# Altium footprint library AvionicsPcbLib1.PcbLib: 31 footprints (part 2 of 2)
Each footprint in its own frame and in the unit in brackets; x right, y up, seen from the top. Pads: shape width x height; smd on the part's side, far side on the other; paste and mask are expansions set on the pad; w line width, h text height; cw(c..) or ccw(c..) is an arc to the next point about the centre after c.
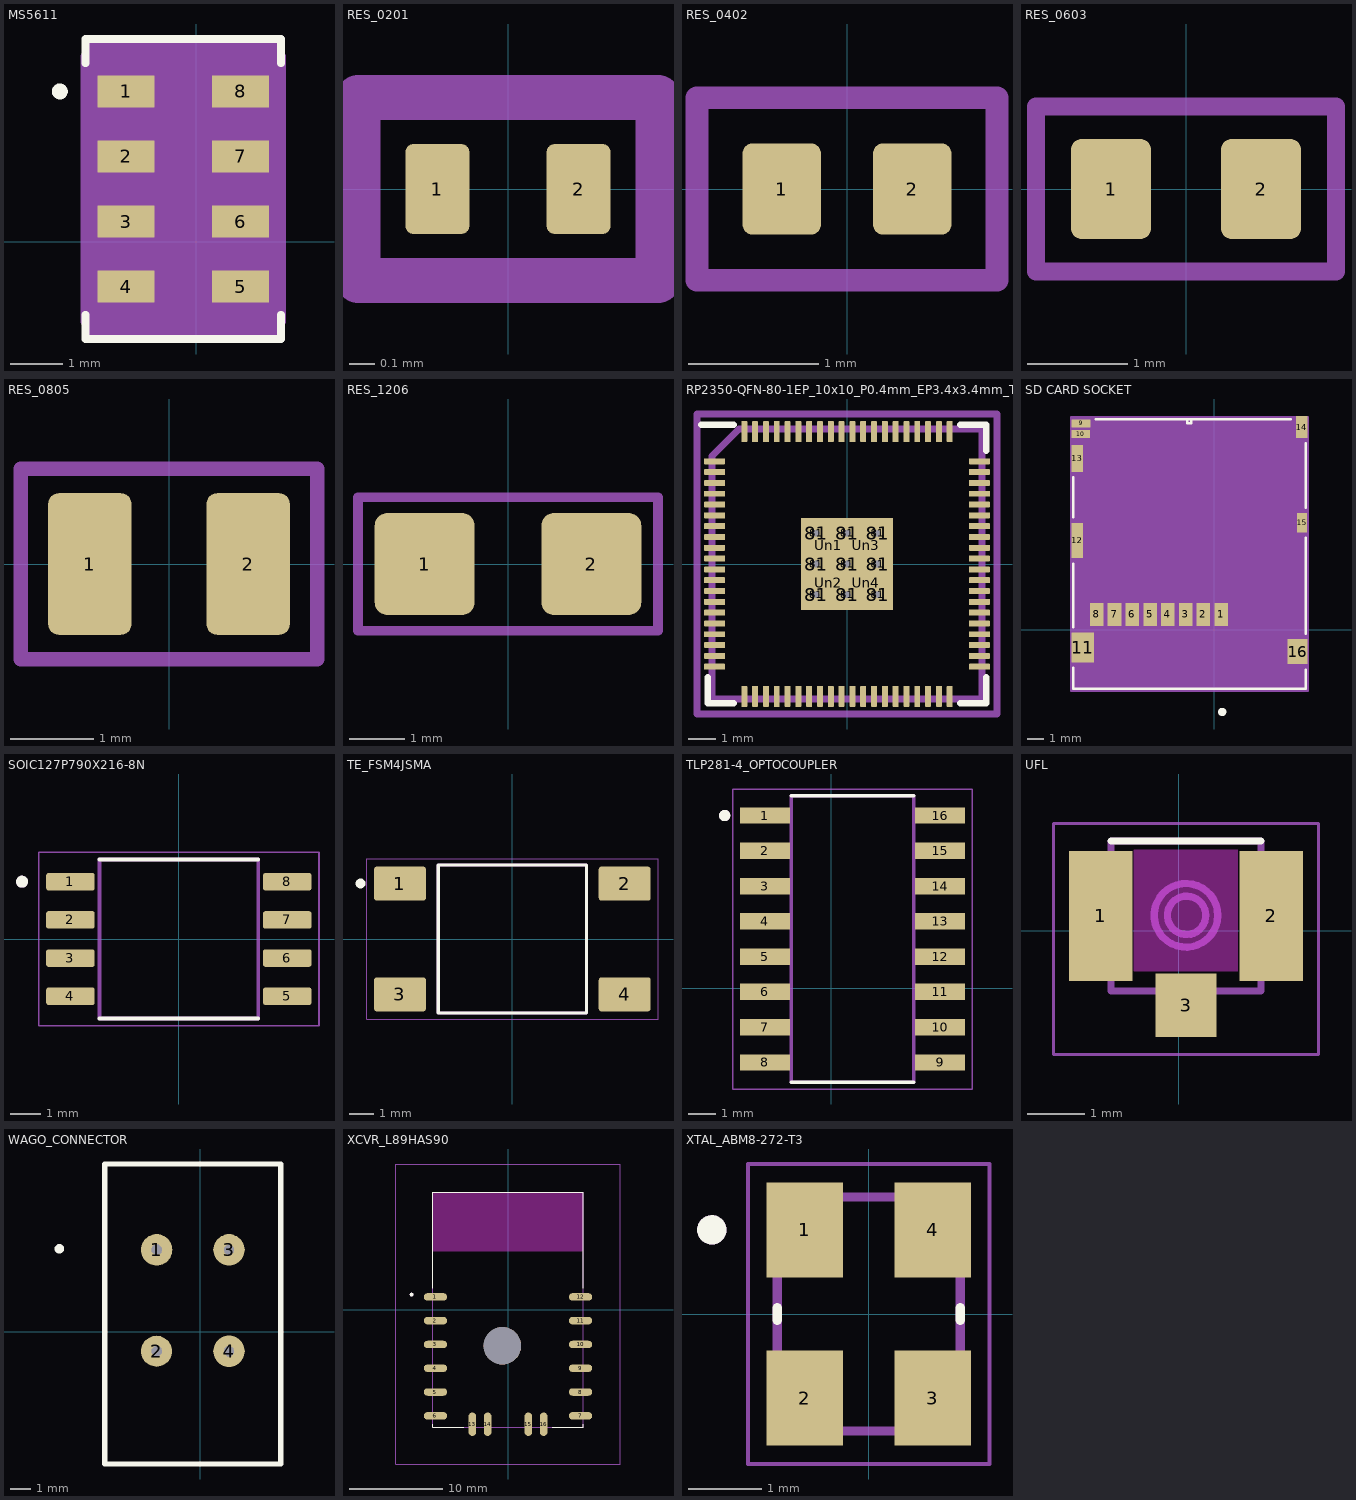
[diagram p1: the footprints below, top view; thin cyan lines are the x and y axes]

## MS5611 [mil]
pads (8):
  rect 43x24 smd paste-12 mask+0: 1(-53.31,113.82) 2(-53.31,64.61) 3(-53.31,15.39) 4(-53.31,-33.82) 5(33.31,-33.82) 6(33.31,15.39) 7(33.31,64.61) 8(33.31,113.82)
Top Overlay:
  circle w6: c-103.41,113.82 r3
  lines w6: -84,-55.15 -84,-73.5 64,-73.5 64,-55.15 ; -84,135.15 -84,153.5 64,153.5 64,135.15
  text ".Designator" at -85,180 h20
Top Paste:
  region: 54.81,125.82 11.81,125.82 11.81,101.82 54.81,101.82
  region: 54.81,76.61 11.81,76.61 11.81,52.61 54.81,52.61
  region: 54.81,27.39 11.81,27.39 11.81,3.39 54.81,3.39
  region: 54.81,-21.82 11.81,-21.82 11.81,-45.82 54.81,-45.82
  region: -31.81,-21.82 -74.81,-21.82 -74.81,-45.82 -31.81,-45.82
  region: -31.81,27.39 -74.81,27.39 -74.81,3.39 -31.81,3.39
  region: -31.81,76.61 -74.81,76.61 -74.81,52.61 -31.81,52.61
  region: -31.81,125.82 -74.81,125.82 -74.81,101.82 -31.81,101.82
Top Solder:
  region: 54.81,125.82 11.81,125.82 11.81,101.82 54.81,101.82
  region: 54.81,76.61 11.81,76.61 11.81,52.61 54.81,52.61
  region: 54.81,27.39 11.81,27.39 11.81,3.39 54.81,3.39
  region: 54.81,-21.82 11.81,-21.82 11.81,-45.82 54.81,-45.82
  region: -31.81,-21.82 -74.81,-21.82 -74.81,-45.82 -31.81,-45.82
  region: -31.81,27.39 -74.81,27.39 -74.81,3.39 -31.81,3.39
  region: -31.81,76.61 -74.81,76.61 -74.81,52.61 -31.81,52.61
  region: -31.81,125.82 -74.81,125.82 -74.81,101.82 -31.81,101.82
Mechanical 13:
  circle w1: c-20,113.82 r3
  lines w1: -22,138.5 ccw(c-10,138.5) 2,138.5 ; -69,-58.5 -69,138.5 49,138.5 49,-58.5 -69,-58.5
  text ".Designator" at -85,180 h20
Mechanical 15:
  region: -79,-60.43 -84.81,-60.43 -84.81,140.43 -79,140.43 -79,148.5 59,148.5 59,140.43 64.81,140.43 64.81,-60.43 59,-60.43 59,-68.5 -79,-68.5
  lines w6: -84.81,-60.43 -79,-60.43 -79,-68.5 59,-68.5 59,-60.43 64.81,-60.43 64.81,140.43 59,140.43 59,148.5 -79,148.5 -79,140.43 -84.81,140.43 -84.81,-60.43

## RES_0201 [mm]
pads (2):
  rrect25% 0.25x0.35 smd mask+0.05: 1(-0.275,0) 2(0.275,0)
Mechanical 13:
  lines w0.175: -0.584,-0.356 0.584,-0.356 0.584,0.356 -0.584,0.356 -0.584,-0.356
  text "'.Designator'" at -5.665,-0.417 h1
3D body "R0201.step": height 0.15, standoff 0, extent -0.3,-0.15 0.3,0.15

## RES_0402 [mm]
pads (2):
  rrect25% 0.6x0.7 smd: 1(-0.5,0) 2(0.5,0)
Mechanical 13:
  lines w0.175: -1.15,-0.7 -1.15,0.7 1.15,0.7 1.15,-0.7 -1.15,-0.7
  text "'.Designator'" at -5.665,-0.417 h1
3D body "R0402.step": height 0.3, standoff 0, extent -0.5,-0.25 0.5,0.25

## RES_0603 [mm]
pads (2):
  rrect25% 0.8x1 smd: 1(-0.75,0) 2(0.75,0)
Mechanical 13:
  lines w0.175: -1.5,-0.825 -1.5,0.825 1.5,0.825 1.5,-0.825 -1.5,-0.825
  text "'.Designator'" at -5.665,-0.417 h1
3D body "R0603.step": height 0.52, standoff 0.01, extent -0.8,-0.43 0.8,0.43

## RES_0805 [mm]
pads (2):
  rrect25% 1x1.7 smd: 1(-0.95,0) 2(0.95,0)
Mechanical 13:
  lines w0.175: -1.778,-1.143 -1.778,1.143 1.778,1.143 1.778,-1.143 -1.778,-1.143
  text "'.Designator'" at -5.665,-0.417 h1
3D body "R0805.step": height 0.47, standoff 0.01, extent -1,-0.63 1,0.63

## RES_1206 [mm]
pads (2):
  rrect25% 1.8x1.84 smd: 1(-1.5,0) 2(1.5,0)
Mechanical 13:
  lines w0.175: -2.7,-1.2 -2.7,1.2 2.7,1.2 2.7,-1.2 -2.7,-1.2
  text "'.Designator'" at -5.665,-0.417 h1
3D body "R1206.step": height 0.57, standoff 0.01, extent -1.6,-0.83 1.6,0.83

## RP2350-QFN-80-1EP_10x10_P0.4mm_EP3.4x3.4mm_ThermalVias [mm]
pads (102):
  rrect25% 0.78x0.22 smd: 1(-4.897,3.8) 2(-4.897,3.4) 3(-4.897,3) 4(-4.897,2.6) 5(-4.897,2.2) 6(-4.897,1.8) 7(-4.897,1.4) 8(-4.897,1) 9(-4.897,0.6) 10(-4.897,0.2) 11(-4.897,-0.2) 12(-4.897,-0.6) 13(-4.897,-1) 14(-4.897,-1.4) 15(-4.897,-1.8) 16(-4.897,-2.2) 17(-4.897,-2.6) 18(-4.897,-3) 19(-4.897,-3.4) 20(-4.897,-3.8) 41(4.897,-3.8) 42(4.897,-3.4) 43(4.897,-3) 44(4.897,-2.6) 45(4.897,-2.2) 46(4.897,-1.8) 47(4.897,-1.4) 48(4.897,-1) 49(4.897,-0.6) 50(4.897,-0.2) 51(4.897,0.2) 52(4.897,0.6) 53(4.897,1) 54(4.897,1.4) 55(4.897,1.8) 56(4.897,2.2) 57(4.897,2.6) 58(4.897,3) 59(4.897,3.4) 60(4.897,3.8)
  rrect25% 0.22x0.78 smd: 21(-3.8,-4.897) 22(-3.4,-4.897) 23(-3,-4.897) 24(-2.6,-4.897) 25(-2.2,-4.897) 26(-1.8,-4.897) 27(-1.4,-4.897) 28(-1,-4.897) 29(-0.6,-4.897) 30(-0.2,-4.897) 31(0.2,-4.897) 32(0.6,-4.897) 33(1,-4.897) 34(1.4,-4.897) 35(1.8,-4.897) 36(2.2,-4.897) 37(2.6,-4.897) 38(3,-4.897) 39(3.4,-4.897) 40(3.8,-4.897) 61(3.8,4.897) 62(3.4,4.897) 63(3,4.897) 64(2.6,4.897) 65(2.2,4.897) 66(1.8,4.897) 67(1.4,4.897) 68(1,4.897) 69(0.6,4.897) 70(0.2,4.897) 71(-0.2,4.897) 72(-0.6,4.897) 73(-1,4.897) 74(-1.4,4.897) 75(-1.8,4.897) 76(-2.2,4.897) 77(-2.6,4.897) 78(-3,4.897) 79(-3.4,4.897) 80(-3.8,4.897)
  rect 1.133x1.133 smd: 81(-1.133,-1.133) 81(-1.133,0) 81(-1.133,1.133) 81(0,-1.133) 81(0,0) 81(0,1.133) 81(1.133,-1.133) 81(1.133,0) 81(1.133,1.133)
  round 0.6 hole 0.25: 81(-1.133,-1.133) 81(-1.133,0) 81(-1.133,1.133) 81(0,-1.133) 81(0,0) 81(0,1.133) 81(1.133,-1.133) 81(1.133,0) 81(1.133,1.133)
  rrect21% 1.2x1.2 on Top Paste: Un1(-0.7,0.7) Un2(-0.7,-0.7) Un3(0.7,0.7) Un4(0.7,-0.7)
Top Overlay:
  lines w0.254: -5.39,5.15 -4.2,5.15 ; -5.15,-4.2 -5.15,-5.15 -4.2,-5.15 ; 4.2,-5.15 5.15,-5.15 5.15,-4.2 ; 4.2,5.15 5.15,5.15 5.15,4.2
Mechanical 4:
  lines w0.254: -5.55,-5.55 5.55,-5.55 5.55,5.55 -5.55,5.55 -5.55,-5.55
Mechanical 6:
  lines w0.254: -5,-5 5,-5 5,5 -4,5 -5,4 -5,-5

## SD CARD SOCKET [mil]
pads (16):
  rect 33x56 smd paste+0 mask+0: 1(17.36,37.53) 2(-25.94,37.53) 3(-69.25,37.53) 4(-112.56,37.53) 5(-155.87,37.53) 6(-199.17,37.53) 7(-242.48,37.53) 8(-285.79,37.53)
  rect 46x19 smd paste+0 mask+0: 9(-323.78,503.08)
  rect 44x19 smd paste+0 mask+0: 10(-324.76,477.09)
  rect 55x73 smd paste+0 mask+0: 11(-319.84,-43.18)
  rect 28x86 smd paste+0 mask+0: 12(-333.62,217.84)
  rect 28x65 smd paste-32.5 mask-32.5: 13(-333.62,417.84)
  rect 28x53 smd paste-26.5 mask-26.5: 14(213.62,494.22)
  rect 25x47 smd paste-23.5 mask-23.5: 15(214.61,260.95)
  rect 48x61 smd paste-30.5 mask-30.5: 16(203.58,-53.02)
Top Overlay:
  circle w10: c20,-200 r5
  lines w6: -343.5,-92.78 -343.5,-143 223.5,-143 223.5,-96.62 ; -343.5,6.42 -343.5,161.74 ; -343.5,273.94 -343.5,372.24 ; -287.69,513 186.52,513 ; 223.5,-9.42 223.5,224.35 ; 223.5,297.55 223.5,454.62 ; -65,503 -55,503 -55,513 -65,513 -65,503
Mechanical 13:
  lines w1: -338.5,-138 218.5,-138 218.5,508 -338.5,508 -338.5,-138
  text "*" at 0,-40 h50
Mechanical 15:
  region: 228.5,-148 228.5,518 -348.5,518 -348.5,-148
  lines w6: -348.5,-148 -348.5,518 228.5,518 228.5,-148 -348.5,-148

## SOIC127P790X216-8N [mm]
height 2.16
pads (8):
  rrect25% 1.61x0.58 smd: 1(-3.605,1.905) 2(-3.605,0.635) 3(-3.605,-0.635) 4(-3.605,-1.905) 5(3.605,-1.905) 6(3.605,-0.635) 7(3.605,0.635) 8(3.605,1.905)
Top Overlay:
  circle w0.2: c-5.215,1.905 r0.1
  lines w0.127: -2.64,-2.64 2.64,-2.64 ; -2.64,2.64 2.64,2.64
Mechanical 13:
  circle w0.2: c-5.215,1.905 r0.1
  lines w0.127: -2.64,-2.64 -2.64,2.64 2.64,2.64 2.64,-2.64 -2.64,-2.64
Mechanical 15:
  lines w0.05: -4.66,-2.89 -4.66,2.89 4.66,2.89 4.66,-2.89 -4.66,-2.89
3D body "step_temp.STEP": height 2.16, standoff 0, extent -3.95,-2.64 3.95,2.64

## TE_FSM4JSMA [mm]
pads (4):
  rrect15% 2.1x1.38 smd: 1(-4.55,2.24) 2(4.55,2.24) 3(-4.55,-2.24) 4(4.55,-2.24)
Top Overlay:
  circle w0.2: c-6.151,2.249 r0.1
  lines w0.127: -3,-3 -3,3 3,3 3,-3 -3,-3
Mechanical 13:
  lines w0.127: -3,-3 3,-3 3,3 -3,3 -3,-3
Mechanical 15:
  lines w0.05: -5.9,-3.25 5.9,-3.25 5.9,3.25 -5.9,3.25 -5.9,-3.25
3D body "step_temp.STEP": height 5.07, standoff 0, extent -5,-3 5,3

## TLP281-4_OPTOCOUPLER [mm]
pads (16):
  rect 1.8x0.59 smd: 1(-2.393,6.223) 2(-2.393,4.953) 3(-2.393,3.683) 4(-2.393,2.413) 5(-2.393,1.143) 6(-2.393,-0.127) 7(-2.393,-1.397) 8(-2.393,-2.667) 9(3.917,-2.667) 10(3.917,-1.397) 11(3.917,-0.127) 12(3.917,1.143) 13(3.917,2.413) 14(3.917,3.683) 15(3.917,4.953) 16(3.917,6.223)
Top Overlay:
  circle w0.2: c-3.838,6.223 r0.1
  lines w0.127: -1.438,-3.372 2.962,-3.372 ; -1.438,6.928 2.962,6.928
Mechanical 13:
  circle w0.2: c-3.838,6.223 r0.1
  lines w0.127: -1.438,-3.372 -1.438,6.928 2.962,6.928 2.962,-3.372 -1.438,-3.372
Mechanical 15:
  lines w0.05: -3.543,-3.622 -3.543,7.178 5.067,7.178 5.067,-3.622 -3.543,-3.622
3D body "step_temp.STEP": height 2.1, standoff 0, extent -2.738,-3.372 4.262,6.928

## UFL [mm]
pads (3):
  rect 1.1x2.25 smd: 1(-1.348,0.254) 2(1.602,0.254)
  rect 1.05x1.1 smd: 3(0.127,-1.296)
Top Overlay:
  lines w0.127: -1.173,1.554 1.427,1.554
Keep-Out Layer:
  region: 1.027,-0.709 -0.776,-0.709 -0.776,1.404 1.027,1.404
Mechanical 13:
  circle w0.127: c0.127,0.264 r0.552
  circle w0.127: c0.137,0.264 r0.332
  lines w0.127: -1.203,1.134 -1.203,1.124 -1.443,1.124 -1.443,-0.616 -1.173,-0.616 ; 1.467,-0.616 1.697,-0.616 1.697,1.124 1.507,1.124 ; -1.173,-0.616 -1.173,1.554 1.427,1.554 1.427,-1.046 -1.173,-1.046 -1.173,-0.616
Mechanical 14:
  lines w0.127: 1.467,-0.656 1.467,-0.646
Mechanical 15:
  lines w0.05: -2.173,-2.146 2.427,-2.146 2.427,1.854 -2.173,1.854 -2.173,-2.146
3D body "step_temp.STEP": height 1.25, standoff 0, extent -1.373,-1.296 1.627,1.804

## WAGO_CONNECTOR [mm]
pads (4):
  round 1.524 hole 0.5 square: 1(-2.1,3.95) 3(1.4,3.95) 4(1.4,-0.95)
  round 1.5 hole 0.5 square: 2(-2.1,-0.95)
Top Overlay:
  circle w0.254: c-6.8,4 r0.1
  lines w0.254: -4.6,-6.4 3.9,-6.4 3.9,8.1 -4.6,8.1 -4.6,-6.4
3D body "2601-1102.stp": height 12.76, standoff -3.59, extent -5.3,-8.38 3.95,8.2

## XCVR_L89HAS90 [mm]
pads (17):
  oval 2.5x0.8 smd: 1(-7.75,1.35) 2(-7.75,-1.19) 3(-7.75,-3.73) 4(-7.75,-6.27) 5(-7.75,-8.81) 6(-7.75,-11.35) 7(7.75,-11.35) 8(7.75,-8.81) 9(7.75,-6.27) 10(7.75,-3.73) 11(7.75,-1.19) 12(7.75,1.35)
  oval 0.8x2.5 smd: 13(-3.81,-12.25) 14(-2.17,-12.25) 15(2.17,-12.25) 16(3.81,-12.25)
  round 4 hole 4 unplated: ""(-0.6,-3.87)
Top Overlay:
  circle w0.2: c-10.3,1.6 r0.1
  lines w0.127: -8.05,-12.25 -8.05,-12.55 -4.75,-12.55 ; -8.05,2.25 -8.05,12.55 8.05,12.55 8.05,2.25 ; 4.75,-12.55 8.05,-12.55 8.05,-12.25
Keep-Out Layer:
  region: 8,6.25 -8,6.25 -8,12.5 8,12.5
  region: 8,6.25 -8,6.25 -8,12.5 8,12.5
Mechanical 13:
  circle w0.2: c-10.3,1.6 r0.1
  lines w0.127: -8.05,-12.55 8.05,-12.55 8.05,12.55 -8.05,12.55 -8.05,-12.55
Mechanical 15:
  lines w0.05: -12,-16.5 12,-16.5 12,15.55 -12,15.55 -12,-16.5
3D body "step_temp.STEP": height 7.25, standoff 0, extent -9.49,-12.5 8.91,13.9

## XTAL_ABM8-272-T3 [mm]
height 0.8
pads (4):
  rect 1.05x1.3 smd: 1(-0.875,1.15) 2(-0.875,-1.15) 3(0.875,-1.15) 4(0.875,1.15)
Top Overlay:
  circle w0.2: c-2.145,1.15 r0.1
  lines w0.127: -1.25,-0.085 -1.25,0.085 ; 1.25,-0.085 1.25,0.085
Mechanical 13:
  circle w0.2: c-2.145,1.15 r0.1
  lines w0.127: -1.25,-1.6 -1.25,1.6 1.25,1.6 1.25,-1.6 -1.25,-1.6
Mechanical 15:
  lines w0.05: -1.65,-2.05 -1.65,2.05 1.65,2.05 1.65,-2.05 -1.65,-2.05
3D body "step_temp.STEP": height 0.7, standoff 0, extent -1.25,-1.6 1.25,1.6